# EAGLE library part FPC-0.5X30 (library pimoroni-connectors)
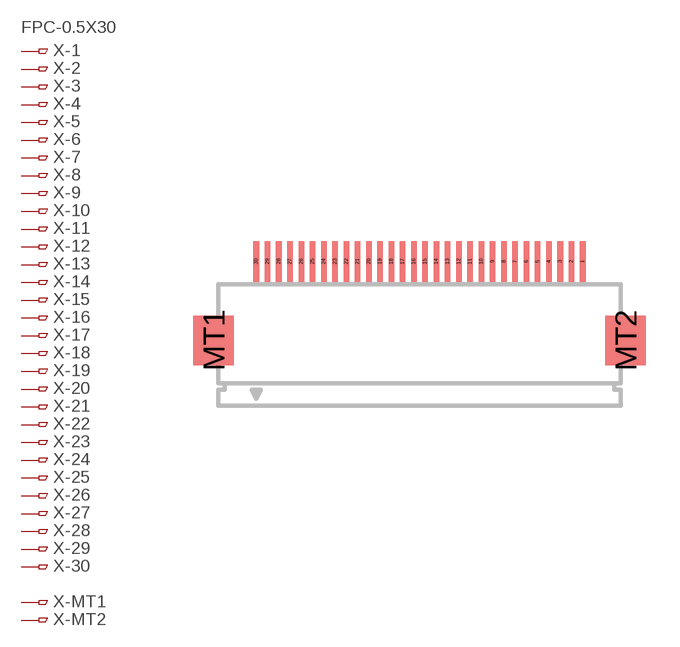
[diagram p7: symbol with the pads of FPC_0.5X30; footprint FPC_0.5X30]

Designator prefix X; gates -1=PINV -2=PIN -3=PIN -4=PIN -5=PIN -6=PIN -7=PIN -8=PIN -9=PIN -10=PIN -11=PIN -12=PIN -13=PIN -14=PIN -15=PIN -16=PIN -17=PIN -18=PIN -19=PIN -20=PIN -21=PIN -22=PIN -23=PIN -24=PIN -25=PIN -26=PIN -27=PIN -28=PIN -29=PIN -30=PIN -MT1=PIN -MT2=PIN

## FPC-0.5X30H  [FPC_0.5X30]
1  -1:1  pas
2  -2:1  pas
3  -3:1  pas
4  -4:1  pas
5  -5:1  pas
6  -6:1  pas
7  -7:1  pas
8  -8:1  pas
9  -9:1  pas
10  -10:1  pas
11  -11:1  pas
12  -12:1  pas
13  -13:1  pas
14  -14:1  pas
15  -15:1  pas
16  -16:1  pas
17  -17:1  pas
18  -18:1  pas
19  -19:1  pas
20  -20:1  pas
21  -21:1  pas
22  -22:1  pas
23  -23:1  pas
24  -24:1  pas
25  -25:1  pas
26  -26:1  pas
27  -27:1  pas
28  -28:1  pas
29  -29:1  pas
30  -30:1  pas
MT1  -MT1:1  pas
MT2  -MT2:1  pas

## Footprint FPC_0.5X30 (pad centres in mm)
smd 0.25 x 1.8: 1 4.75,3.5; 2 4.25,3.5; 3 3.75,3.5; 4 3.25,3.5; 5 2.75,3.5; 6 2.25,3.5; 7 1.75,3.5; 8 1.25,3.5; 9 0.75,3.5; 10 0.25,3.5; 11 -0.25,3.5; 12 -0.75,3.5; 13 -1.25,3.5; 14 -1.75,3.5; 15 -2.25,3.5; 16 -2.75,3.5; 17 -3.25,3.5; 18 -3.75,3.5; 19 -4.25,3.5; 20 -4.75,3.5; 21 -5.25,3.5; 22 -5.75,3.5; 23 -6.25,3.5; 24 -6.75,3.5; 25 -7.25,3.5; 26 -7.75,3.5; 27 -8.25,3.5; 28 -8.75,3.5; 29 -9.25,3.5; 30 -9.75,3.5
smd 1.8 x 2.2: MT1 -11.65,0; MT2 6.65,0